# Altium footprint library mccPcb.PcbLib: 7 footprints
Each footprint in its own frame and in the unit in brackets; x right, y up, seen from the top. Pads: shape width x height; smd on the part's side, far side on the other; paste and mask are expansions set on the pad; w line width, h text height; cw(c..) or ccw(c..) is an arc to the next point about the centre after c.
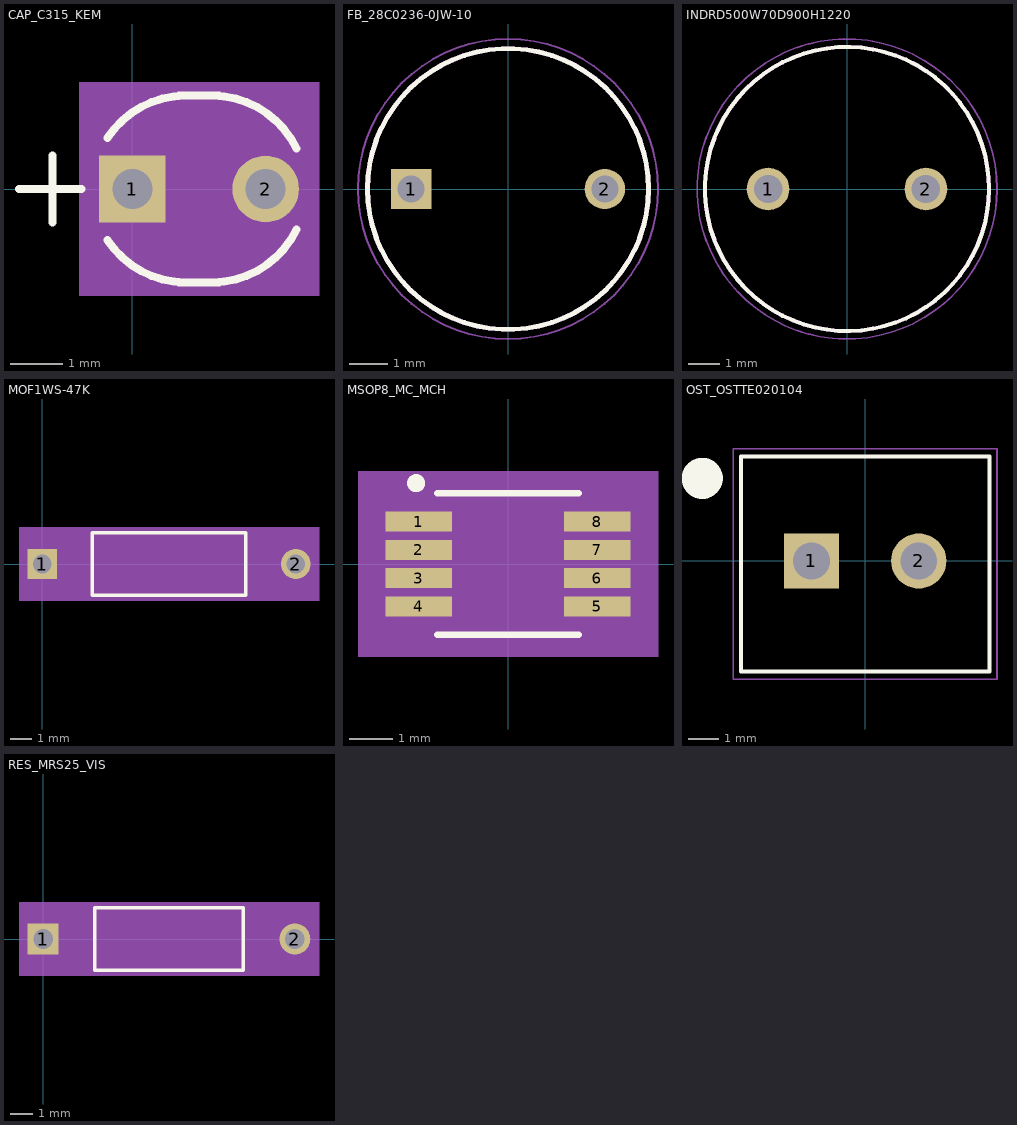
[diagram p0: the footprints below, top view; thin cyan lines are the x and y axes]

## CAP_C315_KEM [mil]
pads (2):
  rect 50x50 hole 30: 1(0,0)
  round 50 hole 30: 2(100,0)
Top Overlay:
  lines w6: -85,0 -38.1,0 ; -60,-25 -60,25 ; -18.72,-38.1 ccw(c40,0) 40,-70 ; -18.72,38.1 cw(c40,0) 40,70 ; 35,-70 65,-70 ; 35,70 65,70 ; 60,-70 ccw(c60,0) 123.1,-30.29 ; 60,70 cw(c60,0) 123.1,30.29
Mechanical 5:
  region: 140,-80 -40,-80 -40,80 140,80
Mechanical 13:
  lines w0: 40,-65 cw(c40,0) 40,65 ; 60,-65 ccw(c60,0) 60,65
  lines w1: -85,0 -35,0 ; -60,-25 -60,25 ; 40,-65 60,-65 ; 40,65 60,65
Mechanical 15:
  region: 135,-75 -35,-75 -35,75 135,75
  lines w6: -35,-75 135,-75 135,75 -35,75 -35,-75
3D body "CAP_C315_KEM.step": height 210, standoff -160, extent -25,-70 125,60

## FB_28C0236-0JW-10 [mm]
pads (2):
  rect 1.06x1.06 hole 0.71: 1(-2.54,0)
  round 1.06 hole 0.71: 2(2.54,0)
Top Overlay:
  circle w0.127: c0,0 r3.685
Mechanical 13:
  circle w0.127: c0,0 r3.685
Mechanical 15:
  circle w0.05: c0,0 r3.935
3D body "T356C106K010AS.step": height 11.46, standoff -3.7, extent -2.815,-2.587 2.815,2.413

## INDRD500W70D900H1220 [mm]
pads (2):
  round 1.35 hole 0.9: 1(-2.5,0) 2(2.5,0)
Top Overlay:
  circle w0.127: c0,0 r4.5
Mechanical 13:
  circle w0.127: c0,0 r4.5
Mechanical 15:
  circle w0.05: c0,0 r4.75
3D body "rlb0608-102kl.stp": height 7.51, standoff -28.49, extent -2.775,-2.674 2.725,2.826

## MOF1WS-47K [mil]
pads (2):
  rect 54x54 hole 34 mask+0: 1(0,0)
  round 54 hole 34 mask+0: 2(460,0)
Top Overlay:
  lines w6: 91,-56.5 91,56.5 369,56.5 369,-56.5 91,-56.5
Mechanical 5:
  region: 502,-66.5 -42,-66.5 -42,66.5 502,66.5
Mechanical 13:
  lines w1: 0,0 96,0 ; 364,0 460,0 ; 96,-51.5 96,51.5 364,51.5 364,-51.5 96,-51.5
Mechanical 15:
  region: 86,-37 -37,-37 -37,37 86,37 86,61.5 374,61.5 374,37 497,37 497,-37 374,-37 374,-61.5 86,-61.5
  lines w6: -37,-37 86,-37 86,-61.5 374,-61.5 374,-37 497,-37 497,37 374,37 374,61.5 86,61.5 86,37 -37,37 -37,-37
3D body "YAG_FMP100_YAG.step": height 102.59, standoff -110, extent -12.01,-51.4 472.01,51.4

## MSOP8_MC_MCH [mil]
pads (8):
  rect 60x18 smd paste+0 mask+0: 1(-80.5,38.39) 2(-80.5,12.8) 3(-80.5,-12.8) 4(-80.5,-38.39) 5(80.5,-38.39) 6(80.5,-12.8) 7(80.5,12.8) 8(80.5,38.39)
Top Overlay:
  circle w10: c-83,73 r3.16
  lines w6: -64,-64 64,-64 ; -64,64 64,64
Mechanical 5:
  region: 135.5,-84 -135.5,-84 -135.5,84 135.5,84
Mechanical 13:
  lines w0: -12,59 ccw(c0,59) 12,59
  lines w1: -96.5,-46.39 -59,-46.39 -59,-30.39 -96.5,-30.39 -96.5,-46.39 ; -96.5,-20.8 -59,-20.8 -59,-4.8 -96.5,-4.8 -96.5,-20.8 ; -96.5,4.8 -59,4.8 -59,20.8 -96.5,20.8 -96.5,4.8 ; -96.5,30.39 -59,30.39 -59,46.39 -96.5,46.39 -96.5,30.39 ; -59,-59 -59,59 59,59 59,-59 -59,-59 ; 59,-46.39 96.5,-46.39 96.5,-30.39 59,-30.39 59,-46.39 ; 59,-20.8 96.5,-20.8 96.5,-4.8 59,-4.8 59,-20.8 ; 59,4.8 96.5,4.8 96.5,20.8 59,20.8 59,4.8 ; 59,30.39 96.5,30.39 96.5,46.39 59,46.39 59,30.39
  text "*" at -56.5,6 h50
Mechanical 15:
  region: -69,-57.39 -120.5,-57.39 -120.5,57.39 -69,57.39 -69,69 69,69 69,57.39 120.5,57.39 120.5,-57.39 69,-57.39 69,-69 -69,-69
  lines w6: -120.5,-57.39 -69,-57.39 -69,-69 69,-69 69,-57.39 120.5,-57.39 120.5,57.39 69,57.39 69,69 -69,69 -69,57.39 -120.5,57.39 -120.5,-57.39
3D body "MSOP8_MC_MCH.step": height 43.11, standoff 0, extent -96.5,-59.02 96.5,59.02

## OST_OSTTE020104 [mm]
pads (2):
  rect 1.8x1.8 hole 1.2: 1(-1.75,0)
  round 1.8 hole 1.2: 2(1.75,0)
Top Overlay:
  circle w1: c-5.309,2.692 r0.17
  lines w0.127: -4.05,-3.6 4.05,-3.6 4.05,3.4 -4.05,3.4 -4.05,-3.6
Mechanical 15:
  lines w0.05: -4.3,-3.85 4.3,-3.85 4.3,3.65 -4.3,3.65 -4.3,-3.85
3D body "OSTTE020104--3DModel-STEP-56544.STEP": height 8.31, standoff -3.89, extent -3.987,-3.652 4.013,3.348

## RES_MRS25_VIS [mil]
pads (2):
  rect 54x54 hole 34 mask+0: 1(0,0)
  round 54 hole 34 mask+0: 2(438,0)
Top Overlay:
  lines w6: 90,-54 90,54 348,54 348,-54 90,-54
Mechanical 5:
  region: 480,-64 -42,-64 -42,64 480,64
Mechanical 13:
  lines w1: 0,0 95,0 ; 343,0 438,0 ; 95,-49 95,49 343,49 343,-49 95,-49
Mechanical 15:
  region: 85,-37 -37,-37 -37,37 85,37 85,59 353,59 353,37 475,37 475,-37 353,-37 353,-59 85,-59
  lines w6: -37,-37 85,-37 85,-59 353,-59 353,-37 475,-37 475,37 353,37 353,59 85,59 85,37 -37,37 -37,-37
3D body "RES_MRS25_VIS.step": height 97.63, standoff -100, extent -12.01,-48.9 450,48.9